# EAGLE library part 737-104 (library con-wago_737)
Serie 737, Dreistock-Klemmenleiste für Leiterplatten 3 Lötstifte in Reihe / Series 737, Triple-deck PCB terminal strip 3 solder pins, in line Polzahl / Pole No.: 4 Rastermaß / Pitch: 5 mm Bemessungsspannung / Rated Voltage: 320 V Nennstrom / Nominal Current: 21 A Leiterquerschnitt / Conductor Size: 0.08 - 2.5 mm² Anschlusstechnik / Connection Technology: CAGE CLAMP® Lötstiftlänge: / Solder Pin Length: 4 mm Leitereinführung (zur Platine) / Conductor entry angle (to PCB): 45 ° Farbe / Color: grau / gray Stand: 01.01.2012. Die jeweils aktuellen Daten zu diesem Artikel finden Sie in unserem Produktkatalog, den Sie unter www.wago.com einsehen können. As of: 01/01/2012. Please find the newest data for this article in our product catalogue, which can be viewed under www.wago.com.
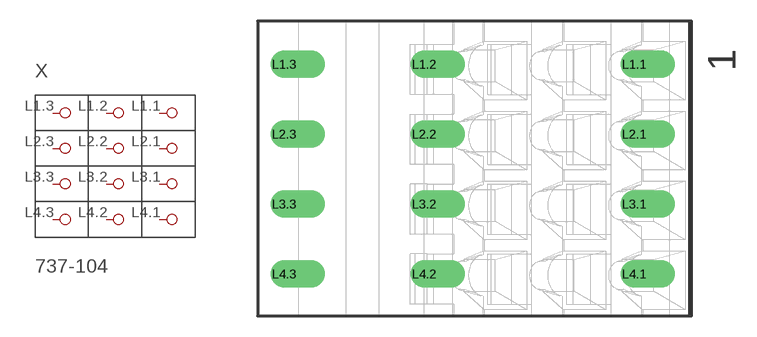
[diagram p2: symbol with the pads of P-737-104; footprint P-737-104]

Designator prefix X

## 737-104  [P-737-104]
L1.1  P1.1
L1.2  P1.2
L1.3  P1.3
L2.1  P2.1
L2.2  P2.2
L2.3  P2.3
L3.1  P3.1
L3.2  P3.2
L3.3  P3.3
L4.1  P4.1
L4.2  P4.2
L4.3  P4.3

## Footprint P-737-104 (pad centres in mm)
drill 1.3 offset: L1.1 11.4,7.45; L1.2 -3.6,7.45; L1.3 -13.6,7.45; L2.1 11.4,2.45; L2.2 -3.6,2.45; L2.3 -13.6,2.45; L3.1 11.4,-2.55; L3.2 -3.6,-2.55; L3.3 -13.6,-2.55; L4.1 11.4,-7.55; L4.2 -3.6,-7.55; L4.3 -13.6,-7.55